# Altium schematic symbol library Resistors.SchLib: 3 symbols
Pins are listed as number, name and electrical type; pins without a type are passive.

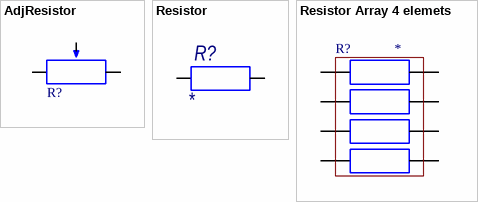
[diagram p0: symbols AdjResistor to Resistor Array 4 elemets]

## AdjResistor
designator R?
Name: *
footprint Adj_resistor_3362
footprint RS09_n
pins: 1  , 2  , 3  

## Resistor
designator R?
Value: *; Name: *; Body: *
footprint R0402 (Chip Resistor, 2-Leads, Body 1,00x0,50mm, IPC Medium Density)
footprint R0603 (Chip Resistor, 2-Leads, Body 1,60x0,85mm, IPC Medium Density)
footprint R0805 (Chip Resistor, 2-Leads, Body 2,10x1,30mm, IPC Medium Density)
footprint R1206 (Chip Resistor, 2-Leads, Body 3,10x1,60mm, IPC Medium Density)
footprint R2512
pins: 1, 2

## Resistor Array 4 elemets
designator R?
isolated resistors; Value: *; Name: *
footprint CAC-85P319X155-8N (Chip Array, Concave, 8-Leads, Pitch 0,85mm,  Body 3,20x1,55mm,  IPC Medium Density)
pins: 1, 2, 3, 4, 5, 6, 7, 8